# Altium schematic symbol library SCH - AMP AUDIO - ANALOG RC4580IDR.SchLib: 1 symbol
Pins are listed as number, name and electrical type; pins without a type are passive.

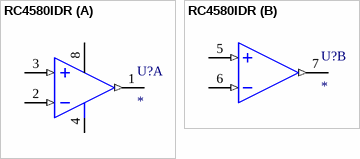
[diagram p0: symbol RC4580IDR]

## RC4580IDR
designator U?
part A pins: 1 1OUT (out), 2 1IN- (in), 3 1IN+ (in), 4 -V, 8 +V
part B pins: 5 2IN+ (in), 6 2IN- (in), 7 2OUT (out)